# Altium schematic symbol library OLED_128x64_SSD_1306.SchLib: 1 symbol
Pins are listed as number, name and electrical type; pins without a type are passive.

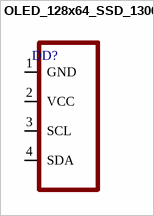
[diagram p0: symbol OLED_128x64_SSD_1306]

## OLED_128x64_SSD_1306
designator DD?
footprint OLED_128x64_SSD_1306
pins: 1 GND, 2 VCC, 3 SCL, 4 SDA